# EAGLE library part BGS12WN6E6327XTSA1 (library ICs)
RF Switch IC WLAN SPDT 50Ohm PG-TSNP-6-10
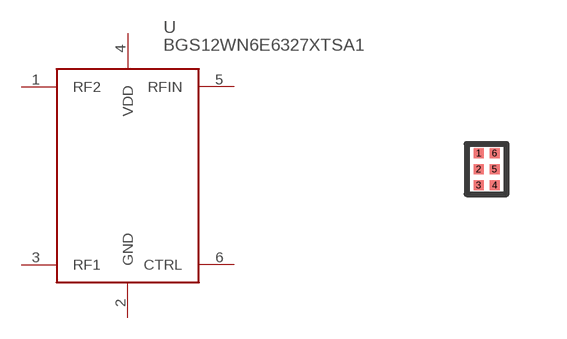
[diagram p281: symbol with the pads of PG-TSNP-6-10; footprint PG-TSNP-6-10]

Designator prefix U

## BGS12WN6E6327XTSA1 (DIGIKEY: 448-BGS12WN6E6327XTSA1CT-ND; HEIGHT: 1; PRICE_PER: 0.25; VALUE: BGS12WN6)  [PG-TSNP-6-10]
1  RF2
2  GND
3  RF1
4  VDD
5  RFIN
6  CTRL

## Footprint PG-TSNP-6-10 (pad centres in mm)
smd 0.25 x 0.25: 1 -0.2,0.4; 2 -0.2,0; 3 -0.2,-0.4; 4 0.2,-0.4; 5 0.2,0; 6 0.2,0.4